# EAGLE library part PSAS-USB-MALE-CONNECTOR (library usb-connector)
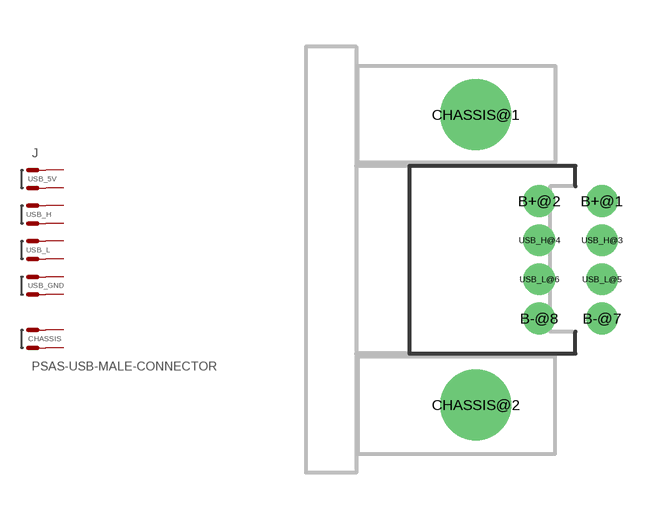
[diagram p0: symbol with the pads of USB-MALE-PKG; footprint USB-MALE-PKG]

Designator prefix J

## PSAS-USB-MALE-CONNECTOR  [USB-MALE-PKG]
B+@1  5V  pwr
B+@2  5V  pwr
B-@7  GND  pwr
B-@8  GND  pwr
CHASSIS@1  CHASSIS  pwr
CHASSIS@2  CHASSIS  pwr
USB_H@3  USB_H  pas
USB_H@4  USB_H  pas
USB_L@5  USB_L  pas
USB_L@6  USB_L  pas

## Footprint USB-MALE-PKG (pad centres in mm)
PSAS USB connector
drill 0.508 pad 1.016 round: B+@1 2,1.875; B+@2 0,1.875; B-@7 2,-1.875; B-@8 0,-1.875; USB_H@3 2,0.625; USB_H@4 0,0.625; USB_L@5 2,-0.625; USB_L@6 0,-0.625
drill 1.511 round: CHASSIS@1 -2.032,4.636; CHASSIS@2 -2.032,-4.636